# EAGLE library part PCA9545 (library PCA9543)
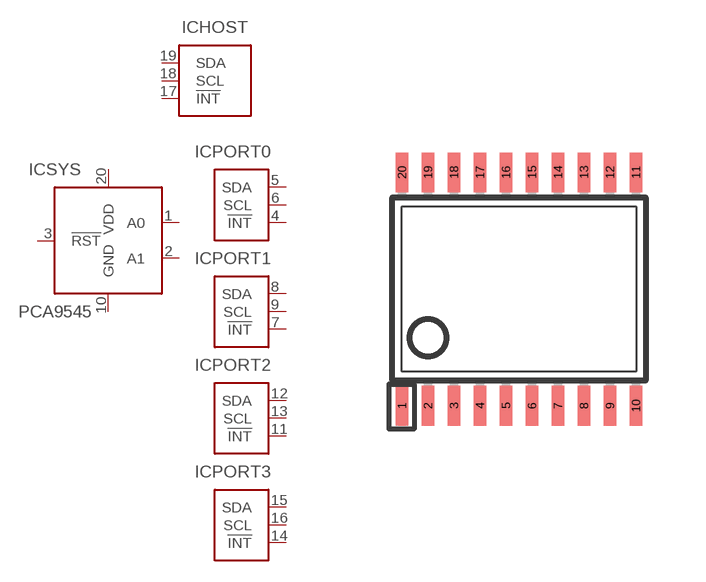
[diagram p1: symbol with the pads of TSSOP20; footprint TSSOP20]

Designator prefix IC; gates HOST=PCA9543_UPSTREAM PORT0=PCA9543_DOWNSTREAM PORT1=PCA9543_DOWNSTREAM PORT2=PCA9543_DOWNSTREAM PORT3=PCA9543_DOWNSTREAM SYS=PCA9543_PWR

## PCA9545  [TSSOP20]
1  SYS:A0  in
2  SYS:A1  in
3  SYS:!RST  in
4  PORT0:!INT  in
5  PORT0:SDA
6  PORT0:SCL
7  PORT1:!INT  in
8  PORT1:SDA
9  PORT1:SCL
10  SYS:GND  in
11  PORT2:!INT  in
12  PORT2:SDA
13  PORT2:SCL
14  PORT3:!INT  in
15  PORT3:SDA
16  PORT3:SCL
17  HOST:!INT  oc
18  HOST:SCL
19  HOST:SDA
20  SYS:VDD  in

## Footprint TSSOP20 (pad centres in mm)
Thin Shrink Small Outline Plastic 20 MAX3223-MAX3243.pdf
smd 0.305 x 0.991: 1 -2.925,-2.918; 2 -2.275,-2.918; 3 -1.625,-2.918; 4 -0.975,-2.918; 5 -0.325,-2.918; 6 0.325,-2.918; 7 0.975,-2.918; 8 1.625,-2.918; 9 2.275,-2.918; 10 2.925,-2.918; 11 2.925,2.918; 12 2.275,2.918; 13 1.625,2.918; 14 0.975,2.918; 15 0.325,2.918; 16 -0.325,2.918; 17 -0.975,2.918; 18 -1.625,2.918; 19 -2.275,2.918; 20 -2.925,2.918